# Altium schematic symbol library Memory.SchLib: 7 symbols
Pins are listed as number, name and electrical type; pins without a type are passive.

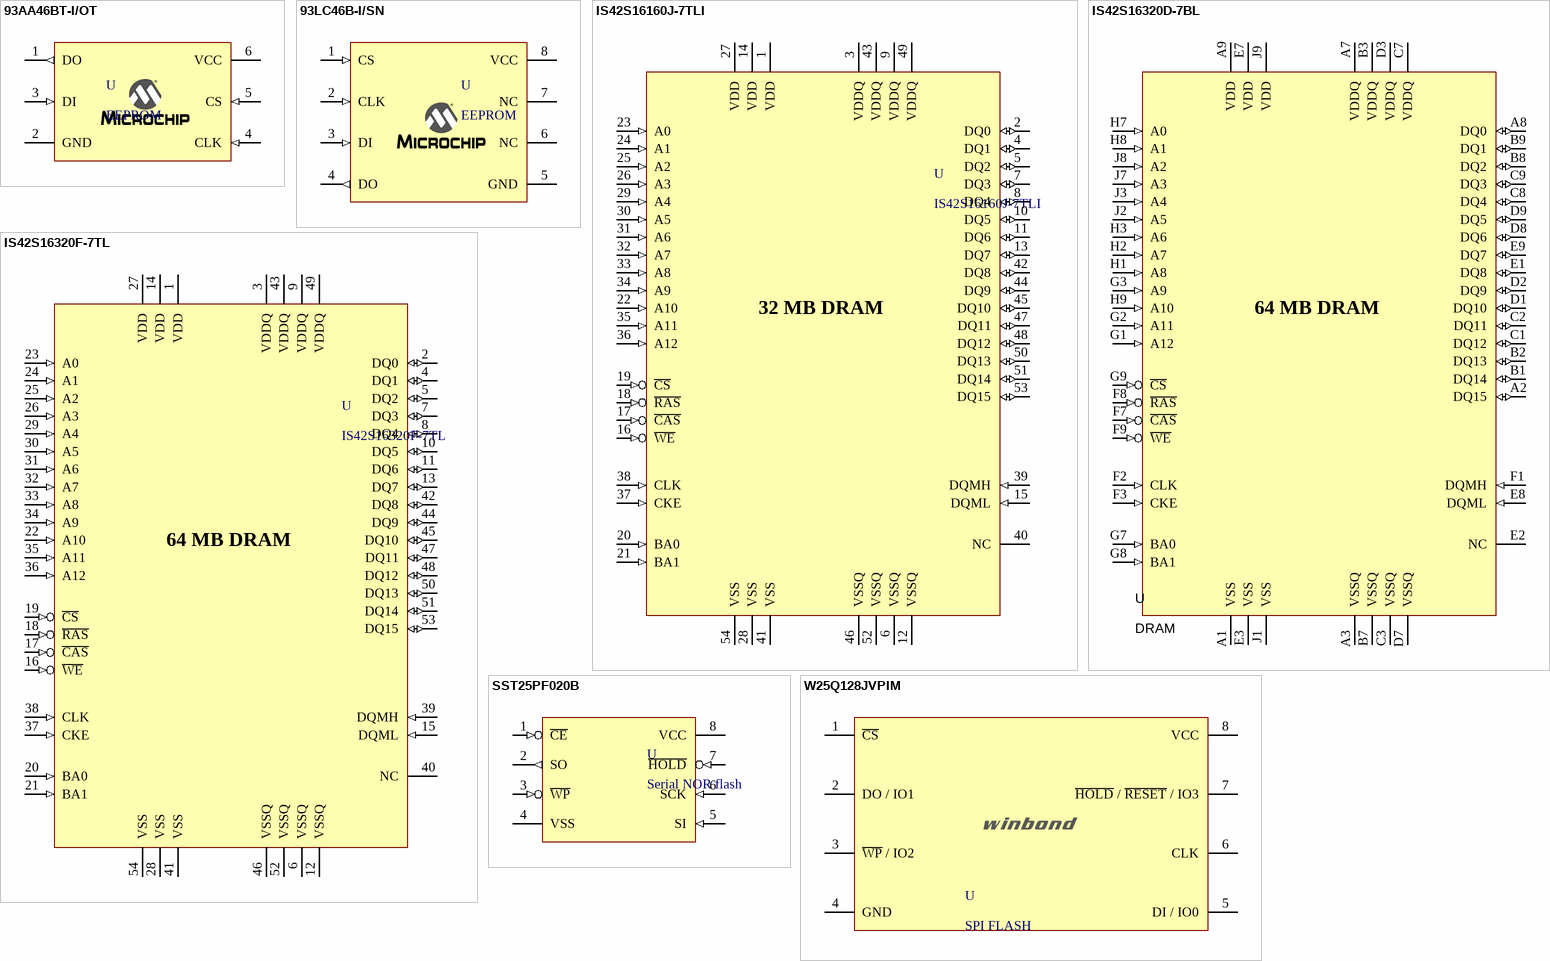
[diagram p0: symbols 93AA46BT-I/OT to W25Q128JVPIM]

## 93AA46BT-I/OT
designator U, comment EEPROM
EEPROM serial 1k 1.8-5.5V 16-bit; Supplier Part Number 1: 1331410; Supplier 1: Farnell
footprint 93AA46BT-I/OT (SOT23, 6-Leads, Body 2.90x2.70mm, Pitch 0.95mm, IPC Medium Density)
pins: 1 DO (out), 2 GND (power), 3 DI (in), 4 CLK (in), 5 CS (in), 6 VCC (power)

## 93LC46B-I/SN
designator U, comment EEPROM
EEPROM serial 1k 2.5-5.5V 16-bit; SUpplier Part Number 1: 9758232; Supplier 1: Farnell
footprint 93LC46B-I/SN (SOIC, 8-Leads, Body 4.90x3.90mm, Pitch 1.27mm, IPC Low Density)
pins: 1 CS (in), 2 CLK (in), 3 DI (in), 4 DO (out), 5 GND (power), 6 NC, 7 NC, 8 VCC (power)

## IS42S16160J-7TLI
designator U
SDRAM 256Mb 16Mx16 TSOP; Clock cycle time: 7.5 ns; Clock frequency: 143 MHz; Supplier 1: Digi-Key; Supplier Part Number 1: 706-1415-ND
footprint IS42S16160J-7TLI (TSOP, 54-Leads, Body 22.25x10.16mm, Pitch 0.80mm, IPC Medium Density)
pins: 1 VDD (power), 2 DQ0 (io), 3 VDDQ (power), 4 DQ1 (io), 5 DQ2 (io), 6 VSSQ, 7 DQ3 (io), 8 DQ4 (io), 9 VDDQ (power), 10 DQ5 (io), 11 DQ6 (io), 12 VSSQ, 13 DQ7 (io), 14 VDD (power), 15 DQML (in), 16 ~{WE} (in), 17 ~{CAS} (in), 18 ~{RAS} (in), 19 ~{CS} (in), 20 BA0 (in), 21 BA1 (in), 22 A10 (in), 23 A0 (in), 24 A1 (in), 25 A2 (in), 26 A3 (in), 27 VDD (power), 28 VSS, 29 A4 (in), 30 A5 (in), 31 A6 (in), 32 A7 (in), 33 A8 (in), 34 A9 (in), 35 A11 (in), 36 A12 (in), 37 CKE (in), 38 CLK (in), 39 DQMH (in), 40 NC, 41 VSS, 42 DQ8 (io), 43 VDDQ (power), 44 DQ9 (io), 45 DQ10 (io), 46 VSSQ, 47 DQ11 (io), 48 DQ12 (io), 49 VDDQ (power), 50 DQ13 (io), 51 DQ14 (io), 52 VSSQ, 53 DQ15 (io), 54 VSS
text: 32 MB DRAM

## IS42S16320D-7BL
designator U, comment DRAM
SDRAM 512Mb 32Mx16 BGA; Supplier 1: Digi-Key; Supplier Part Number 1: 706-1206-ND
footprint IS42S16320D-7BL (BGA, 54-Leads, Body 8.00x13.00mmx1.20mm, Pitch 0.80mm)
pins: A1 VSS (power), A2 DQ15 (io), A3 VSSQ (power), A7 VDDQ (power), A8 DQ0 (io), A9 VDD (power), B1 DQ14 (io), B2 DQ13 (io), B3 VDDQ (power), B7 VSSQ (power), B8 DQ2 (io), B9 DQ1 (io), C1 DQ12 (io), C2 DQ11 (io), C3 VSSQ (power), C7 VDDQ (power), C8 DQ4 (io), C9 DQ3 (io), D1 DQ10 (io), D2 DQ9 (io), D3 VDDQ (power), D7 VSSQ (power), D8 DQ6 (io), D9 DQ5 (io), E1 DQ8 (io), E2 NC, E3 VSS (power), E7 VDD (power), E8 DQML (in), E9 DQ7 (io), F1 DQMH (in), F2 CLK (in), F3 CKE (in), F7 ~{CAS} (in), F8 ~{RAS} (in), F9 ~{WE} (in), G1 A12 (in), G2 A11 (in), G3 A9 (in), G7 BA0 (in), G8 BA1 (in), G9 ~{CS} (in), H1 A8 (in), H2 A7 (in), H3 A6 (in), H7 A0 (in), H8 A1 (in), H9 A10 (in), J1 VSS (power), J2 A5 (in), J3 A4 (in), J7 A3 (in), J8 A2 (in), J9 VDD (power)
text: 64 MB DRAM

## IS42S16320F-7TL
designator U
SDRAM 512Mb 32Mx16 TSOP; Clock cycle time: 7.5 ns; Clock frequency: 143 MHz; Supplier 1: Digi-Key; Supplier Part Number 1: 706-1450-5-ND
footprint IS42S16320F-7TL (TSOP, 54-Leads, Body 22.22x10.16mm, Pitch 0.80mm, IPC Medium Density)
pins: 1 VDD (power), 2 DQ0 (io), 3 VDDQ (power), 4 DQ1 (io), 5 DQ2 (io), 6 VSSQ (power), 7 DQ3 (io), 8 DQ4 (io), 9 VDDQ (power), 10 DQ5 (io), 11 DQ6 (io), 12 VSSQ (power), 13 DQ7 (io), 14 VDD (power), 15 DQML (in), 16 ~{WE} (in), 17 ~{CAS} (in), 18 ~{RAS} (in), 19 ~{CS} (in), 20 BA0 (in), 21 BA1 (in), 22 A10 (in), 23 A0 (in), 24 A1 (in), 25 A2 (in), 26 A3 (in), 27 VDD (power), 28 VSS (power), 29 A4 (in), 30 A5 (in), 31 A6 (in), 32 A7 (in), 33 A8 (in), 34 A9 (in), 35 A11 (in), 36 A12 (in), 37 CKE (in), 38 CLK (in), 39 DQMH (in), 40 NC, 41 VSS (power), 42 DQ8 (io), 43 VDDQ (power), 44 DQ9 (io), 45 DQ10 (io), 46 VSSQ (power), 47 DQ11 (io), 48 DQ12 (io), 49 VDDQ (power), 50 DQ13 (io), 51 DQ14 (io), 52 VSSQ (power), 53 DQ15 (io), 54 VSS (power)
text: 64 MB DRAM

## SST25PF020B
designator U, comment Serial NOR flash
Flash Serial NOR 2Mbit 256K x 8bit; Supplier Part Number 1: 2295955; Supplier 1: Farnell
footprint SST25PF020B
pins: 1 ~{CE} (in), 2 SO (out), 3 ~{WP} (in), 4 VSS (power), 5 SI (in), 6 SCK (in), 7 ~{HOLD} (in), 8 VCC (power)

## W25Q128JVPIM
designator U, comment SPI FLASH
Flash serial NOR 128 Mbit 16M x 8bit; Supplier Part Number 1: W25Q128JVPIMTR-ND; Supplier 1: Digi-Key
footprint W25Q128JVPIM (SON, 8-Leads, Body 5.00x6.00mm, Pitch 1.27mm, Thermal Pad 4.30x3.40mm, IPC Medium Density)
pins: 1 ~{CS}, 2 DO / IO1, 3 ~{WP} / IO2, 4 GND, 5 DI / IO0, 6 CLK, 7 ~{HOLD} / ~{RESET} / IO3, 8 VCC